# EAGLE library part HEADER-2X13 (library microbuilder)
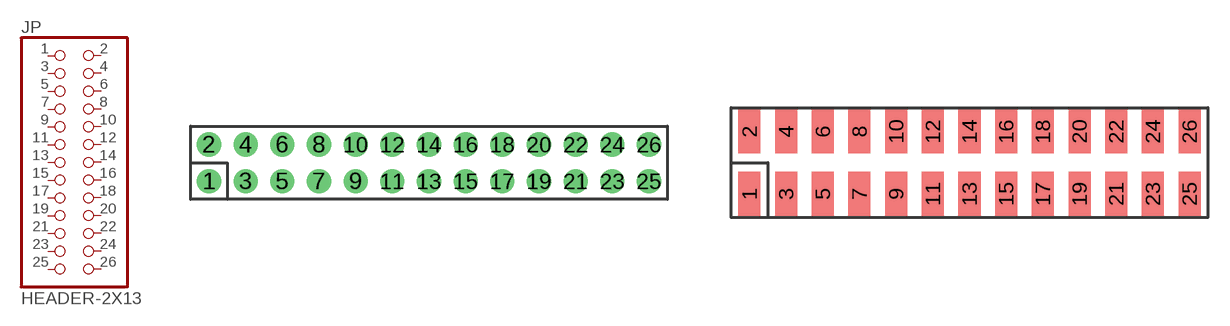
[diagram p2: symbol with the pads of 2X13; footprints 2X13, 2X13_SMT_MALE]

Designator prefix JP

## HEADER-2X13  [2X13]
1  1  pas
2  2  pas
3  3  pas
4  4  pas
5  5  pas
6  6  pas
7  7  pas
8  8  pas
9  9  pas
10  10  pas
11  11  pas
12  12  pas
13  13  pas
14  14  pas
15  15  pas
16  16  pas
17  17  pas
18  18  pas
19  19  pas
20  20  pas
21  21  pas
22  22  pas
23  23  pas
24  24  pas
25  25  pas
26  26  pas

## HEADER-2X13-SMT  [2X13_SMT_MALE]
Pads as for 2X13

## Footprint 2X13 (pad centres in mm)
drill 1 pad 1.676: 1 -15.24,-1.27; 2 -15.24,1.27; 3 -12.7,-1.27; 4 -12.7,1.27; 5 -10.16,-1.27; 6 -10.16,1.27; 7 -7.62,-1.27; 8 -7.62,1.27; 9 -5.08,-1.27; 10 -5.08,1.27; 11 -2.54,-1.27; 12 -2.54,1.27; 13 0,-1.27; 14 0,1.27; 15 2.54,-1.27; 16 2.54,1.27; 17 5.08,-1.27; 18 5.08,1.27; 19 7.62,-1.27; 20 7.62,1.27; 21 10.16,-1.27; 22 10.16,1.27; 23 12.7,-1.27; 24 12.7,1.27; 25 15.24,-1.27; 26 15.24,1.27

## Footprint 2X13_SMT_MALE (pad centres in mm)
smd 1.524 x 3.048: 1 -15.24,-2.159; 2 -15.24,2.159; 3 -12.7,-2.159; 4 -12.7,2.159; 5 -10.16,-2.159; 6 -10.16,2.159; 7 -7.62,-2.159; 8 -7.62,2.159; 9 -5.08,-2.159; 10 -5.08,2.159; 11 -2.54,-2.159; 12 -2.54,2.159; 13 0,-2.159; 14 0,2.159; 15 2.54,-2.159; 16 2.54,2.159; 17 5.08,-2.159; 18 5.08,2.159; 19 7.62,-2.159; 20 7.62,2.159; 21 10.16,-2.159; 22 10.16,2.159; 23 12.7,-2.159; 24 12.7,2.159; 25 15.24,-2.159; 26 15.24,2.159